# EAGLE library part MC9S08EL32CTJ (library appfruits)
8-bit Microcontroller
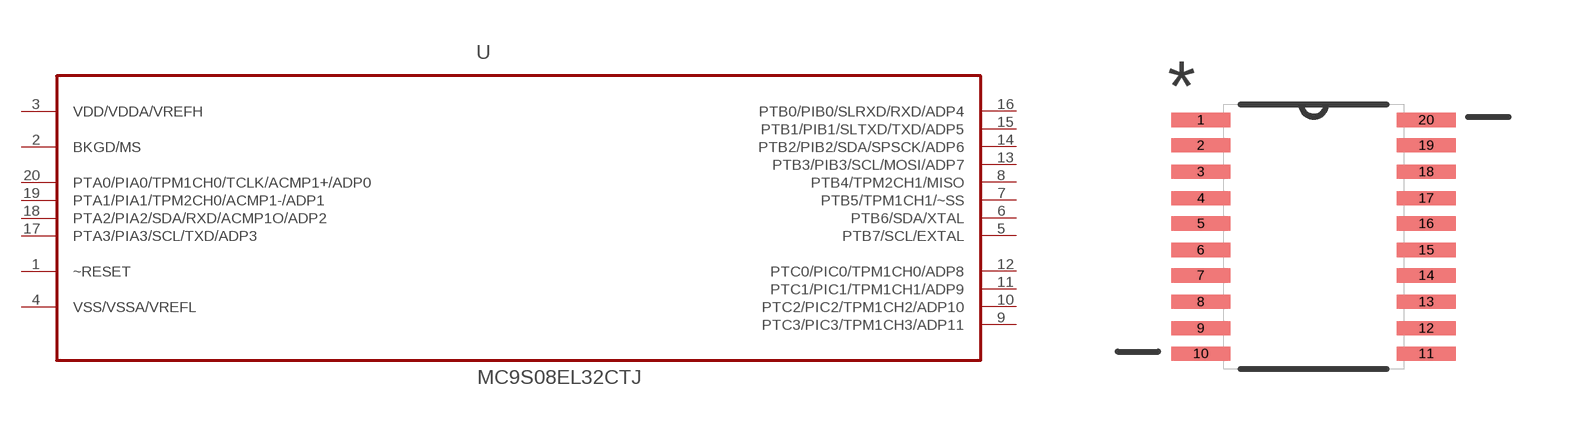
[diagram p3: symbol with the pads of SOP65P640X120-20N; footprint SOP65P640X120-20N]

Designator prefix U

## MC9S08EL32CTJ (MPN: MC9S08EL32CTJ; OC_FARNELL: 1699508; OC_NEWARK: 09P4068; PACKAGE: TSSOP-20; SUPPLIER: Freescale Semiconductor)  [SOP65P640X120-20N]
1  ~RESET
2  BKGD/MS  in
3  VDD/VDDA/VREFH  pwr
4  VSS/VSSA/VREFL  pwr
5  PTB7/SCL/EXTAL
6  PTB6/SDA/XTAL
7  PTB5/TPM1CH1/~SS
8  PTB4/TPM2CH1/MISO
9  PTC3/PIC3/TPM1CH3/ADP11
10  PTC2/PIC2/TPM1CH2/ADP10
11  PTC1/PIC1/TPM1CH1/ADP9
12  PTC0/PIC0/TPM1CH0/ADP8
13  PTB3/PIB3/SCL/MOSI/ADP7
14  PTB2/PIB2/SDA/SPSCK/ADP6
15  PTB1/PIB1/SLTXD/TXD/ADP5
16  PTB0/PIB0/SLRXD/RXD/ADP4
17  PTA3/PIA3/SCL/TXD/ADP3
18  PTA2/PIA2/SDA/RXD/ACMP1O/ADP2
19  PTA1/PIA1/TPM2CH0/ACMP1-/ADP1
20  PTA0/PIA0/TPM1CH0/TCLK/ACMP1+/ADP0

## Footprint SOP65P640X120-20N (pad centres in mm)
smd 1.473 x 0.356: 1 -2.819,2.921; 2 -2.819,2.286; 3 -2.819,1.626; 4 -2.819,0.965; 5 -2.819,0.33; 6 -2.819,-0.33; 7 -2.819,-0.965; 8 -2.819,-1.626; 9 -2.819,-2.286; 10 -2.819,-2.921; 11 2.819,-2.921; 12 2.819,-2.286; 13 2.819,-1.626; 14 2.819,-0.965; 15 2.819,-0.33; 16 2.819,0.33; 17 2.819,0.965; 18 2.819,1.626; 19 2.819,2.286; 20 2.819,2.921